# Altium schematic symbol library SCH - OPAMP - TI OPA188 D DGK.SchLib: 1 symbol
Pins are listed as number, name and electrical type; pins without a type are passive.

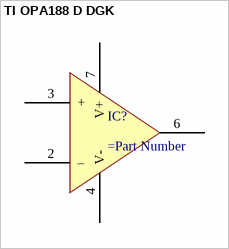
[diagram p0: symbol TI OPA188 D DGK]

## TI OPA188 D DGK
designator IC?
pins: 2 –, 3 +, 4 V-, 6 OUT, 7 V+